# Altium footprint library m18.PcbLib: 15 footprints
Each footprint in its own frame and in the unit in brackets; x right, y up, seen from the top. Pads: shape width x height; smd on the part's side, far side on the other; paste and mask are expansions set on the pad; w line width, h text height; cw(c..) or ccw(c..) is an arc to the next point about the centre after c.
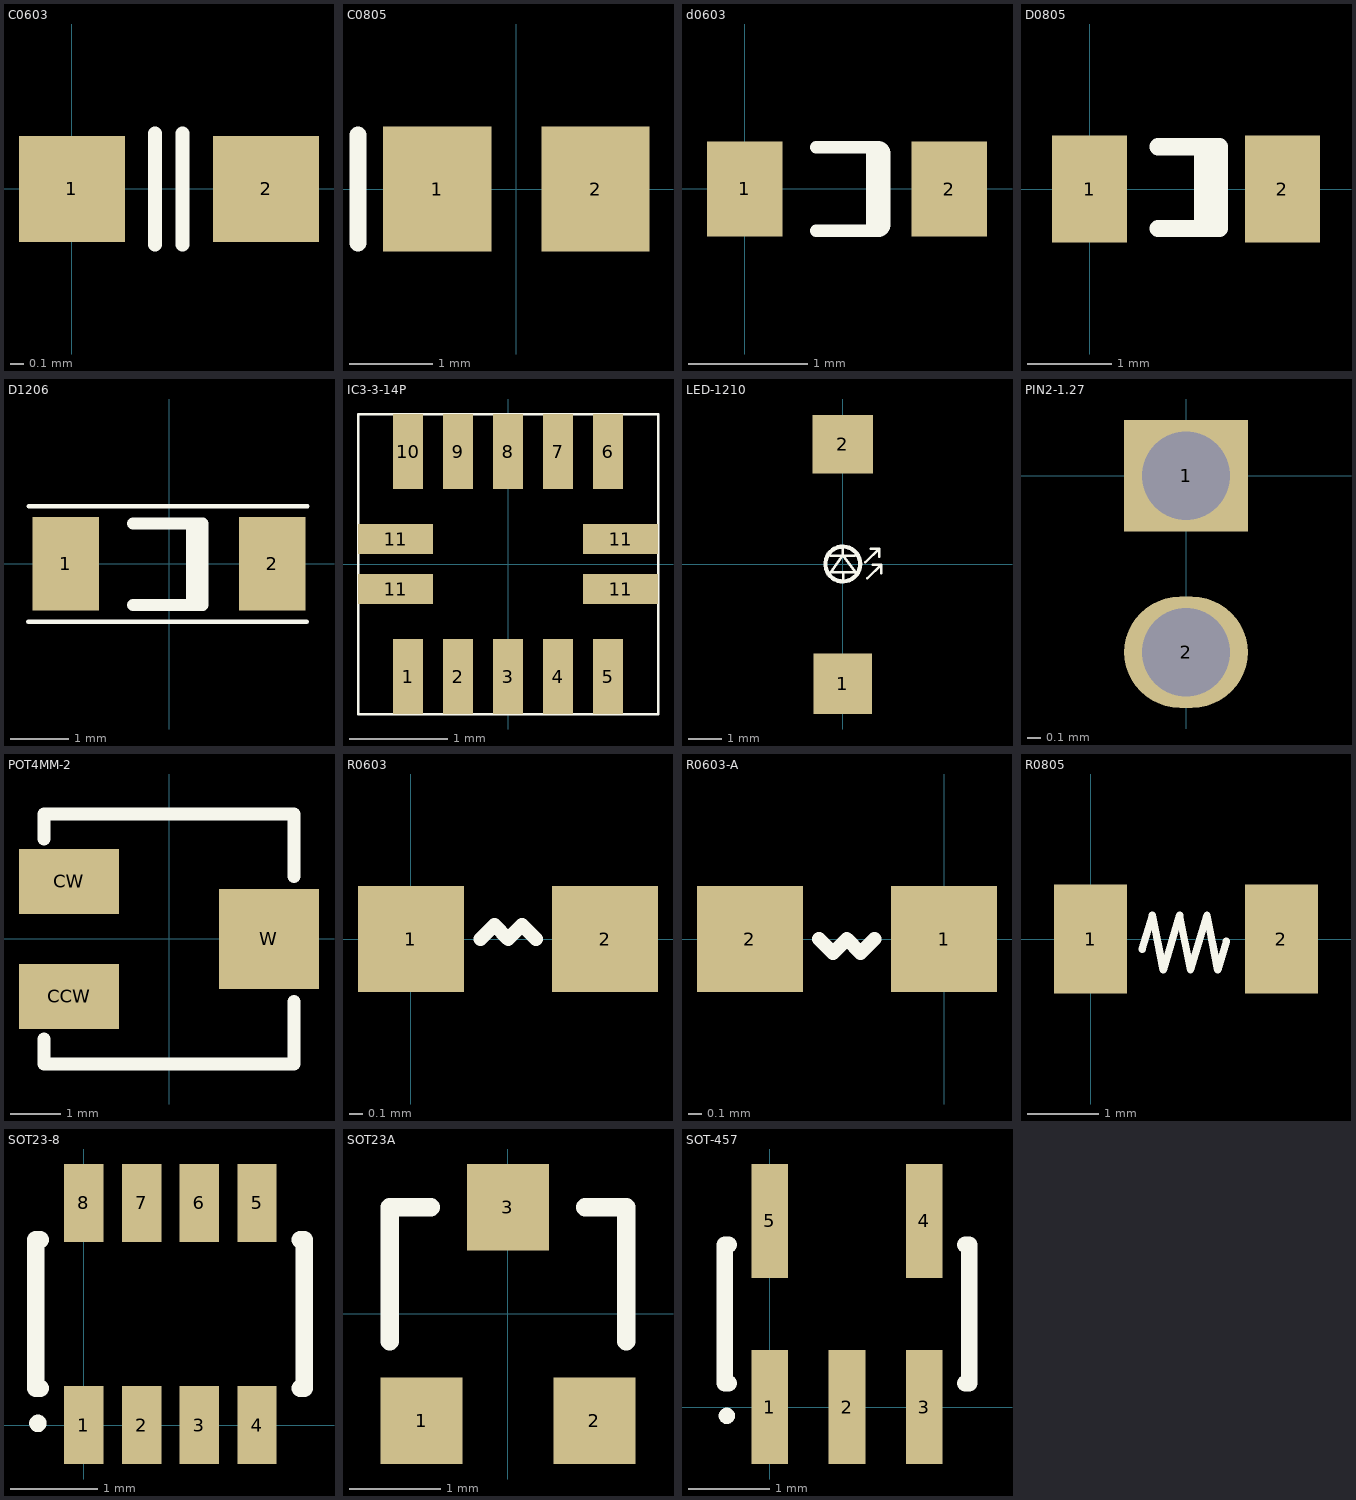
[diagram p0: the footprints below, top view; thin cyan lines are the x and y axes]

## C0603 [mil]
height 50
pads (2):
  rect 30x30 smd: 1(0,0) 2(55,0)
Top Overlay:
  lines w3.94: 23.5,-15.75 23.5,15.75 ; 31.38,-15.75 31.38,15.75

## C0805 [mm] "Chip Capacitor; Body 2.0 x 1.2 mm (LxW typ)"
height 1.1
pads (2):
  rect 1.3x1.5 smd: 1(-0.95,0) 2(0.95,0)
Top Overlay:
  lines w0.2: -1.9,-0.65 -1.9,0.65

## d0603 [mm]
height 1.27
pads (2):
  rect 0.635x0.8 smd: 1(0,0) 2(1.714,0)
Top Overlay:
  lines w0.102: 0.597,-0.35 1.13,-0.35 ; 0.597,0.35 1.12,0.35
  lines w0.203: 1.12,-0.3 1.12,0.3

## D0805 [mil]
height 60
pads (2):
  rect 35x50 smd: 1(0,0) 2(90,0)
Top Overlay:
  lines w8: 32,-18.5 60.63,-18.5 60.63,19.68 32,19.68 ; 52.76,-18.5 52.76,19.68

## D1206 [mil]
height 80
pads (2):
  rect 45x62.99 smd: 1(-70,0) 2(70,0)
Top Overlay:
  lines w3: -95.28,-39.37 93.31,-39.37 ; -94.88,38.98 93.7,38.98
  lines w7.87: -24.34,-27.95 22.91,-27.95 22.91,27.17 -24.34,27.17 ; 15.43,-27.95 15.43,27.17

## IC3-3-14P [mil]
pads (14):
  rect 12x30 smd: 1(-40,-45) 2(-20,-45) 3(0,-45) 4(20,-45) 5(40,-45) 6(40,45) 7(20,45) 8(0,45) 9(-20,45) 10(-40,45)
  rect 30x12 smd: 11(-45,-10) 11(-45,10) 11(45,-10) 11(45,10)
Top Overlay:
  lines w1: -60,-60 -60,60 60,60 60,-60 -60,-60

## LED-1210 [mm]
height 1.45
pads (2):
  rect 1.75x1.8 smd: 1(0,-3.575)
  rect 1.8x1.75 smd: 2(0,3.575)
Top Overlay:
  circle w0.127: c0,0 r0.52
  lines w0.076: -0.36,-0.25 0.4,-0.25 ; -0.36,0.25 0.35,0.25 ; -0.35,-0.24 0,0.26 0.37,-0.23 ; 0,0.27 0,0.51 ; 0.01,-0.47 0.01,-0.25 ; 0.67,0.05 1.09,0.46 ; 0.73,-0.43 1.15,-0.02 ; 0.84,0.46 1.09,0.46 ; 0.9,-0.02 1.15,-0.02 ; 1.09,0.21 1.09,0.46 ; 1.15,-0.27 1.15,-0.02

## PIN2-1.27 [mil]
height 57.09
pads (2):
  rect 35x31.5 hole 25: 1(0,0)
  oval 35x31.5 hole 25: 2(0,-50)

## POT4MM-2 [mm] "Square Trimming Potentiometer"
height 1.45
pads (3):
  rect 2x1.3 smd: CCW(-2,-1.15) CW(-2,1.15)
  rect 2x2 smd: W(2,0)
Top Overlay:
  lines w0.254: -2.5,-2 -2.5,-2.5 2.5,-2.5 2.5,-1.25 ; -2.5,2 -2.5,2.5 2.5,2.5 2.5,1.25

## R0603 [mil]
height 20
pads (2):
  rect 30x30 smd: 1(0,0) 2(55,0)
Top Overlay:
  lines w3.94: 19.68,0 23.62,3.94 27.56,0 31.5,3.94 35.43,0

## R0603-A [mil]
pads (2):
  rect 30x30 smd: 1(0,0) 2(-55,0)
Top Overlay:
  lines w3.94: -35.43,0 -31.5,-3.94 -27.56,0 -23.62,-3.94 -19.68,0

## R0805 [mil]
height 20
pads (2):
  rect 40x60 smd: 1(0,0) 2(105,0)
Top Overlay:
  lines w4: 28.37,-5.76 34,13 40,-17 49,13 55,-17 64,13 70,-17 74.71,-1.31

## SOT23-8 [mm]
height 1.27
pads (8):
  rect 0.45x0.889 smd: 1(0,0) 2(0.66,0) 3(1.32,0) 4(1.98,0) 5(1.98,2.54) 6(1.32,2.54) 7(0.66,2.54) 8(0,2.54)
Top Overlay:
  circle w0.1: c-0.525,0.02 r0.05
  lines w0.2: -0.5,0.42 -0.55,0.42 -0.55,2.12 -0.5,2.12 ; 2.472,0.42 2.522,0.42 2.522,2.12 2.472,2.12

## SOT23A [mm] "SOT-23; 3 Leads; Body 3.0 x 2.5 mm, inc. leads (LxW max)"
height 1.2
pads (3):
  rect 0.9x0.95 smd: 1(-0.95,-1.175) 2(0.95,-1.175) 3(0,1.175)
Top Overlay:
  lines w0.2: -1.3,-0.3 -1.3,1.175 -0.85,1.175 ; 0.85,1.175 1.3,1.175 1.3,-0.3

## SOT-457 [mm]
height 2.54
pads (5):
  rect 0.45x1.397 smd: 1(0,0) 2(0.95,0) 3(1.9,0) 4(1.9,2.286) 5(0,2.286)
Top Overlay:
  circle w0.1: c-0.525,-0.107 r0.05
  lines w0.2: -0.5,0.293 -0.55,0.293 -0.55,1.993 -0.5,1.993 ; 2.4,0.293 2.45,0.293 2.45,1.993 2.4,1.993